# EAGLE library part 750313102 (library Wurth_Power Magnetics_WE-FLYTI)
WE-FLYTI Flyback Transformers Characteristics Low leakage inductance Multiple package sizes Wide range input voltages Different output voltages available Isolation voltage: up to 3000VAC Lead free and RoHS compliant Operating temp: -40°C to 125°C Applications Industrial and medical power supplies Auxiliary power supplies Home automation Isolated DC/DC power supplies <https://www.we-online.com/components/media/o795300v209%20FAMILY-MID-FLYTI.jpg> Details see: www.we-online.com/en/components/products/WE-FLYTI <www.we-online.com/catalog/WE-FLYTI/?utm_source=eagle_model&utm_medium=description_link&utm_campaign=eisos_eagle> Created by Ella Wu 2024-07-03 2024 (C) Wurth Elektronik
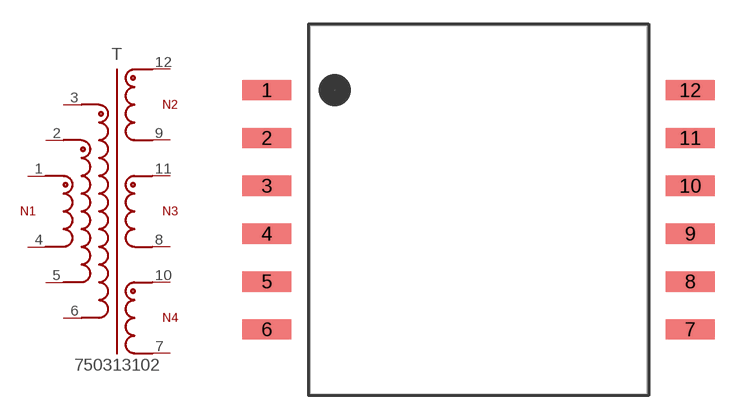
[diagram p18: symbol with the pads of WE-FLYTI_EFD20_4275; footprint WE-FLYTI_EFD20_4275]

Designator prefix T

## 750313102 (DATASHEET-URL: https://www.we-online.com/redexpert/spec/750313102?ae; IOUT1: 500mA; ISAT: 11.5A; L: 12uH; LS: 540nH; MOUNT: SMT; N: 1:1:1:1; PART-NUMBER: 750313102; SIZE: EFD20; VALUE: 750313102; VIN: 10 - 32 V (DC); VOUT1: 48V; VT: 1500V(AC))  [WE-FLYTI_EFD20_4275]
1  1  pas
2  2  pas
3  3  pas
4  4  pas
5  5  pas
6  6  pas
7  7  pas
8  8  pas
9  9  pas
10  10  pas
11  11  pas
12  12  pas

## Footprint WE-FLYTI_EFD20_4275 (pad centres in mm)
WE-FLYTI Flyback Transformers Size:EFD20,SMT,12pins Bobbin: 070-4275
smd 3.05 x 1.27: 1 -13.26,7.5; 2 -13.26,4.5; 3 -13.26,1.5; 4 -13.26,-1.5; 5 -13.26,-4.5; 6 -13.26,-7.5; 7 13.26,-7.5; 8 13.26,-4.5; 9 13.26,-1.5; 10 13.26,1.5; 11 13.26,4.5; 12 13.26,7.5